# Altium footprint library SO_Test.PcbLib: 37 footprints (part 2 of 3)
Each footprint in its own frame and in the unit in brackets; x right, y up, seen from the top. Pads: shape width x height; smd on the part's side, far side on the other; paste and mask are expansions set on the pad; w line width, h text height; cw(c..) or ccw(c..) is an arc to the next point about the centre after c.
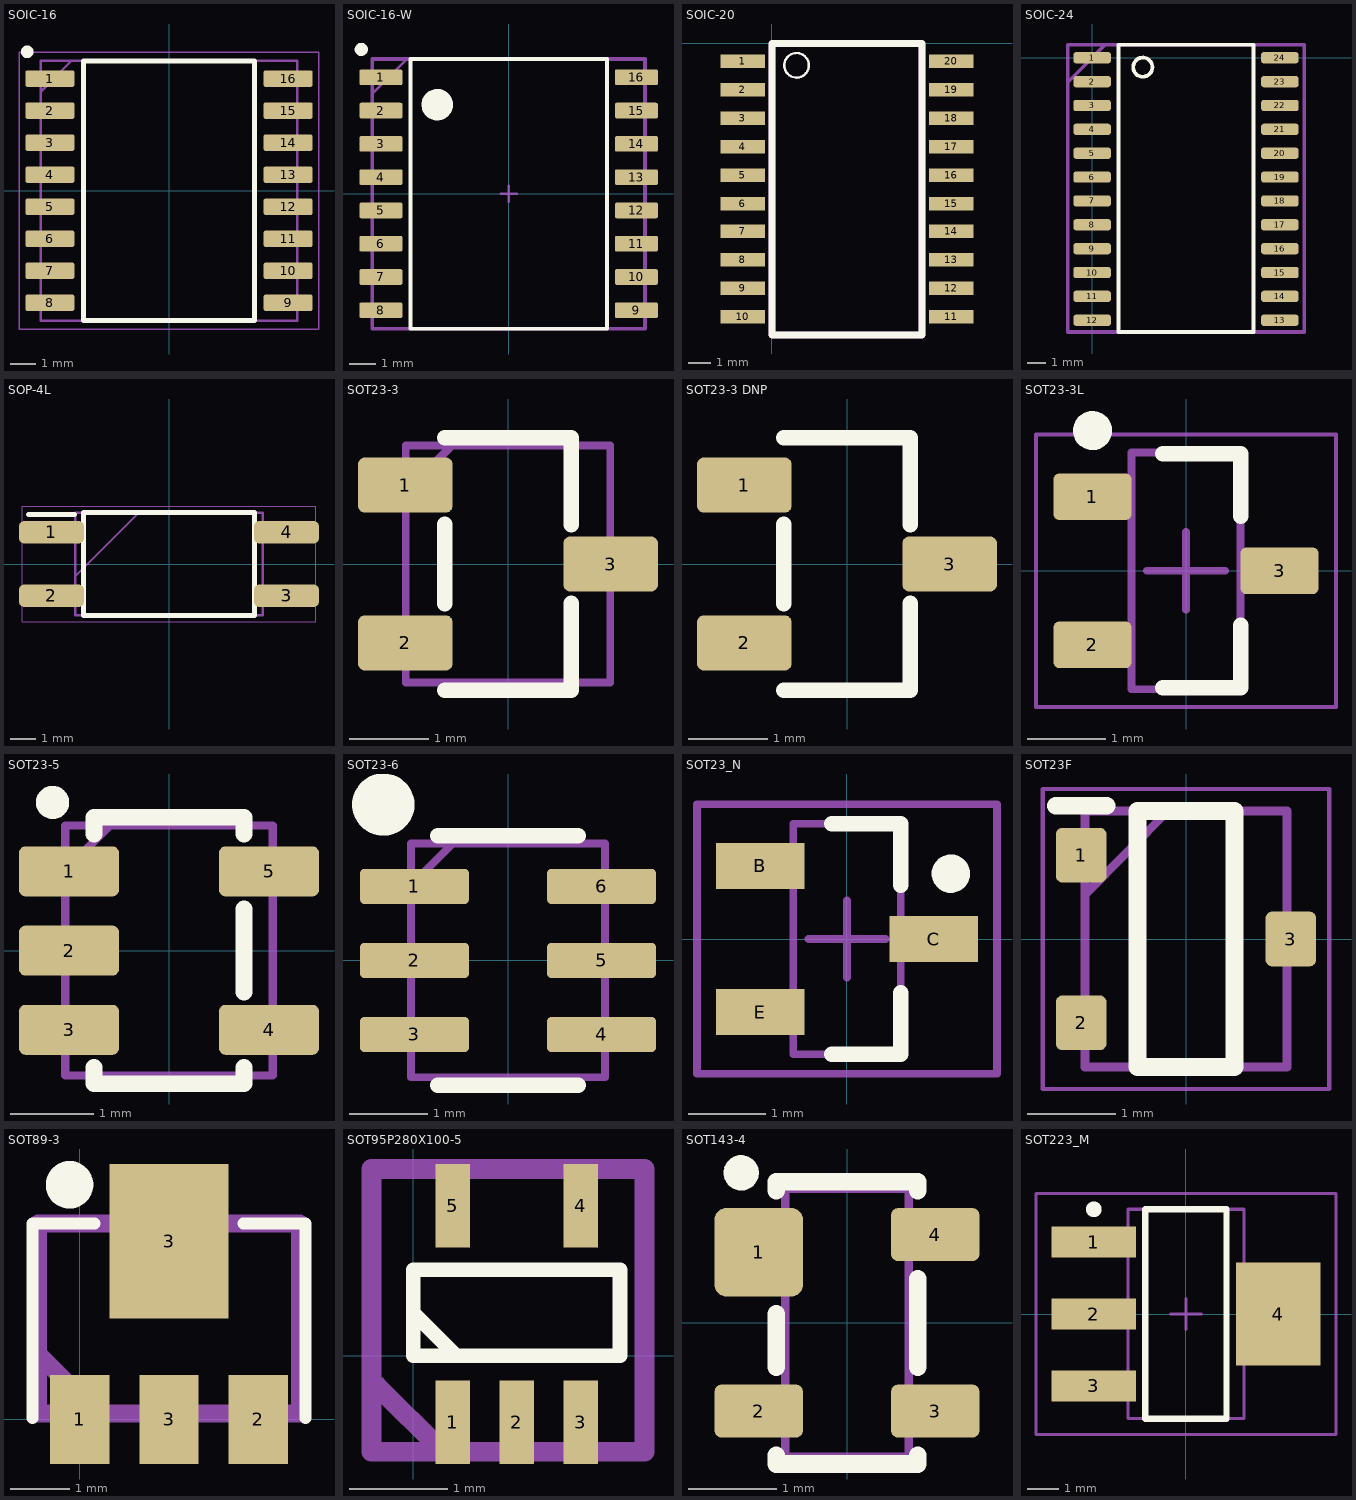
[diagram p1: the footprints below, top view; thin cyan lines are the x and y axes]

## SOIC-16 [mm]
pads (16):
  rrect25% 1.95x0.65 smd: 1(-4.725,4.445) 2(-4.725,3.175) 3(-4.725,1.905) 4(-4.725,0.635) 5(-4.725,-0.635) 6(-4.725,-1.905) 7(-4.725,-3.175) 8(-4.725,-4.445) 9(4.725,-4.445) 10(4.725,-3.175) 11(4.725,-1.905) 12(4.725,-0.635) 13(4.725,0.635) 14(4.725,1.905) 15(4.725,3.175) 16(4.725,4.445)
Top Overlay:
  circle w0.25: c-5.625,5.51 r0.125
  lines w0.2: -3.4,-5.15 3.4,-5.15 3.4,5.15 -3.4,5.15 -3.4,-5.15
Mechanical 15:
  lines w0.05: -5.95,-5.5 5.95,-5.5 5.95,5.5 -5.95,5.5 -5.95,-5.5
Mechanical 29:
  lines w0.1: -5.085,3.942 -3.877,5.15 ; -5.08,-5.15 5.08,-5.15 5.08,5.15 -5.08,5.15 -5.08,-5.15
  text "'.Designator'" at -3.068,-0.397 h1.27
3D body "ISO1050DWR.stp": height 2.65, standoff 0, extent -5.15,-5.15 5.15,5.15

## SOIC-16-W [mm]
pads (16):
  rrect25% 1.65x0.6 smd mask+0.05: 1(-4.875,4.445) 2(-4.875,3.175) 3(-4.875,1.905) 4(-4.875,0.635) 5(-4.875,-0.635) 6(-4.875,-1.905) 7(-4.875,-3.175) 8(-4.875,-4.445) 9(4.875,-4.445) 10(4.875,-3.175) 11(4.875,-1.905) 12(4.875,-0.635) 13(4.875,0.635) 14(4.875,1.905) 15(4.875,3.175) 16(4.875,4.445)
Top Overlay:
  circle w0.25: c-5.625,5.51 r0.125
  circle w0.6: c-2.725,3.4 r0.3
  lines w0.15: -3.75,-5.15 -3.75,5.15 3.75,5.15 3.75,-5.15 -3.75,-5.15
Mechanical 15:
  lines w0.1: -0.3,0 0.3,0 ; 0,-0.3 0,0.3
Mechanical 29:
  lines w0.1: -5.212,3.815 -3.877,5.15
  lines w0.15: -5.207,-5.15 5.207,-5.15 5.207,5.15 -5.207,5.15 -5.207,-5.15
  text "'.Designator'" at -3.068,-0.397 h1.27
3D body "SOIC-16 SiLabs Wide.STEP": height 2.66, standoff 0.01, extent -5.164,-5.15 5.164,5.15

## SOIC-20 [mm]
pads (20):
  rect 2x0.6 smd: 1(-1.3,-0.8) 2(-1.3,-2.07) 3(-1.3,-3.34) 4(-1.3,-4.61) 5(-1.3,-5.88) 6(-1.3,-7.15) 7(-1.3,-8.37) 8(-1.3,-9.64) 9(-1.3,-10.91) 10(-1.3,-12.18) 11(8,-12.18) 12(8,-10.91) 13(8,-9.64) 14(8,-8.37) 15(8,-7.15) 16(8,-5.88) 17(8,-4.61) 18(8,-3.34) 19(8,-2.07) 20(8,-0.8)
Top Overlay:
  circle w0.1: c1.1,-0.975 r0.549
  lines w0.3: 0,-13 6.7,-13 6.7,0 0,0 0,-13
Mechanical 29:
  circle w0.1: c1.1,-0.975 r0.549
  lines w0.3: 0,-13 0,0 6.7,0 6.7,-13 0,-13
  text "'.Designator'" at 3.874,-11.491 h2
3D body "SN74LS245DW.stp": height 2.65, standoff 0, extent -1.85,-12.9 8.45,-0.1

## SOIC-24 [mm]
pads (24):
  rrect50% 2x0.6 smd: 1(0,0) 2(0,-1.27) 3(0,-2.54) 4(0,-3.81) 5(0,-5.08) 6(0,-6.35) 7(0,-7.62) 8(0,-8.89) 9(0,-10.16) 10(0,-11.43) 11(0,-12.7) 12(0,-13.97) 13(10,-13.97) 14(10,-12.7) 15(10,-11.43) 16(10,-10.16) 17(10,-8.89) 18(10,-7.62) 19(10,-6.35) 20(10,-5.08) 21(10,-3.81) 22(10,-2.54) 23(10,-1.27) 24(10,0)
Top Overlay:
  circle w0.2: c2.7,-0.5 r0.51
  lines w0.2: 1.4,-14.6 8.6,-14.6 8.6,0.7 1.4,0.7 1.4,-14.6
Mechanical 29:
  lines w0.2: -1.3,-1.2 -1.3,-1.3 0.7,0.7 ; -1.3,-14.6 -1.3,0.7 11.3,0.7 11.3,-14.6 -1.3,-14.6
  text "'.Designator'" at -0.2,-7.8 h2
3D body "DW0024A.stp": height 1.75, standoff 0, extent -0.165,-14.7 10.165,0.7

## SOP-4L [mm]
pads (4):
  rrect50% 2.6x0.9 smd: 1(-4.7,1.27) 2(-4.7,-1.27) 3(4.7,-1.27) 4(4.7,1.27)
Top Overlay:
  lines w0.2: -5.625,1.97 -3.775,1.97 ; -3.425,-2.05 -3.425,2.05 3.425,2.05 3.425,-2.05 -3.425,-2.05
Mechanical 15:
  lines w0.05: -5.875,-2.3 -5.875,2.3 5.875,2.3 5.875,-2.3 -5.875,-2.3
Mechanical 29:
  lines w0.1: -3.75,-0.49 -1.21,2.05 ; -3.75,-2.05 -3.75,2.05 3.75,2.05 3.75,-2.05 -3.75,-2.05
  text "'.Designator'" at -3.068,-0.397 h1.27
3D body "SOP-4L_TC.step": height 2.31, standoff 0, extent -5.245,-2.045 5.245,2.045

## SOT23-3 [mm] "SOT-23, Micro3, MO-178, TO-236AB, MO-193C, SuperSOT3, SC-59, 1.5x3mm, Pitch 1.9mm"
height 2
pads (3):
  rrect25% 1.2x0.7 smd mask+0.1: 1(-1.3,1) 2(-1.3,-1) 3(1.3,0)
Top Overlay:
  lines w0.2: -0.8,-1.6 0.8,-1.6 0.8,-0.5 ; -0.8,-0.5 -0.8,0.5 ; -0.8,1.6 0.8,1.6 0.8,0.5
Mechanical 29:
  lines w0.1: -1.27,0.94 -0.735,1.475 ; -1.295,-1.5 -1.295,1.5 1.295,1.5 1.295,-1.5 -1.295,-1.5
  text "'.Designator'" at -0.916,-0.086 h0.38
3D body "User Library-SOT23-2.STEP": height 1.08, standoff 0, extent -1.32,-1.5 1.32,1.5

## SOT23-3 DNP [mm] "SOT-23, Micro3, MO-178, TO-236AB, MO-193C, SuperSOT3, SC-59, 1.5x3mm, Pitch 1.9mm"
height 2
pads (3):
  rrect25% 1.2x0.7 smd mask+0.1: 1(-1.3,1) 2(-1.3,-1) 3(1.3,0)
Top Overlay:
  lines w0.2: -0.8,-1.6 0.8,-1.6 0.8,-0.5 ; -0.8,-0.5 -0.8,0.5 ; -0.8,1.6 0.8,1.6 0.8,0.5

## SOT23-3L [mm] "SOT23, 3-Leads, Body 2.92x2.37mm, Pitch 0.95mm, IPC Medium Density"
height 1.12
pads (3):
  rrect25% 1x0.6 smd: 1(-1.2,0.95) 2(-1.2,-0.95) 3(1.2,0)
Top Overlay:
  circle w0.25: c-1.2,1.8 r0.125
  lines w0.2: -0.3,-1.5 0.7,-1.5 0.7,-0.7 ; -0.3,1.5 0.7,1.5 0.7,0.7
Mechanical 15:
  lines w0.05: -1.925,-1.75 -1.925,1.75 1.925,1.75 1.925,-1.75 -1.925,-1.75
  lines w0.1: -0.5,0 0.5,0 ; 0,-0.5 0,0.5
Mechanical 29:
  lines w0.1: -0.7,-1.52 -0.7,1.52 0.7,1.52 0.7,-1.52 -0.7,-1.52
  text "'.Designator'" at 0.086,-0.916 h0.38
3D body "User Library-SOT23-2.STEP": height 1.08, standoff 0, extent -1.32,-1.5 1.32,1.5

## SOT23-5 [mm] "SOT-23-5, SOT25, SOT-25, DBV(R-PDSO-G5), SOT753, TSOT23-5, SC-74A, SOT23-5, S5-T (LINEAR), MO-178AA, MO-193AB(JEDEC), MF05A (NS), TSOP-5(ON), UJ-5 (AD), 1.5x3mm, Pitch 0.65mm"
height 7.62
pads (5):
  rrect25% 1.2x0.6 smd: 1(-1.2,0.95) 2(-1.2,0) 3(-1.2,-0.95) 4(1.2,-0.95) 5(1.2,0.95)
Top Overlay:
  circle w0.2: c-1.397,1.778 r0.1
  lines w0.2: -0.9,-1.4 -0.9,-1.6 0.9,-1.6 0.9,-1.4 ; -0.9,1.4 -0.9,1.6 0.9,1.6 0.9,1.4 ; 0.9,-0.5 0.9,0.5
Mechanical 29:
  lines w0.1: -1.243,0.967 -1.243,1.5 -0.71,1.5 ; -0.71,1.5 1.245,1.5 1.245,-1.5 -1.245,-1.5 -1.245,0.965 -0.71,1.5
  text "'.Designator'" at -0.916,-0.086 h0.38
3D body "CircuitWorks-SOT-23-5.step": height 1.15, standoff 0.05, extent -1.25,-1.5 1.25,1.5

## SOT23-6 [mm]
height 7.62
pads (6):
  rrect25% 1.4x0.45 smd: 1(-1.2,0.95) 2(-1.2,0) 3(-1.2,-0.95) 4(1.2,-0.95) 5(1.2,0) 6(1.2,0.95)
Top Overlay:
  circle w0.4: c-1.6,2 r0.2
  lines w0.2: -0.9,-1.6 0.9,-1.6 ; -0.9,1.6 0.9,1.6
Mechanical 29:
  lines w0.1: -1.243,0.967 -1.243,1.5 -0.71,1.5 ; -0.71,1.5 1.245,1.5 1.245,-1.5 -1.245,-1.5 -1.245,0.965 -0.71,1.5
  text "'.Designator'" at -0.916,-0.119 h0.38
3D body "sot-23-6.stp": height 1.12, standoff 0.01, extent -1.423,-1.46 1.422,1.461

## SOT23_N [mm] "SOT23, 3-Leads, Body 2.9x1.3mm, Pitch 0.95mm, Lead Span 2.3mm - Reverse Pinning, IPC Medium Density"
height 1.1
pads (3):
  rect 1.15x0.6 smd: B(-1.125,0.95) C(1.125,0) E(-1.125,-0.95)
Top Overlay:
  circle w0.25: c1.35,0.85 r0.125
  lines w0.2: -0.2,-1.5 0.7,-1.5 0.7,-0.7 ; -0.2,1.5 0.7,1.5 0.7,0.7
Mechanical 15:
  lines w0.1: -0.5,0 0.5,0 ; 0,-0.5 0,0.5 ; -1.95,-1.75 1.95,-1.75 1.95,1.75 -1.95,1.75 -1.95,-1.75
Mechanical 29:
  lines w0.1: -0.7,-1.5 0.7,-1.5 0.7,1.5 -0.7,1.5 -0.7,-1.5
  text "'.Designator'" at -0.584,-0.313 h0.51
3D body "BSS84.stp": height 1.21, standoff 0.01, extent -1.2,-1.46 1.2,1.46

## SOT23F [mm]
pads (3):
  rrect25% 0.575x0.62 smd: 1(-1.188,0.95) 2(-1.188,-0.95) 3(1.188,0)
Top Overlay:
  lines w0.2: -1.475,1.51 -0.9,1.51 ; -0.55,-1.45 -0.55,1.45 0.55,1.45 0.55,-1.45 -0.55,-1.45
Mechanical 15:
  lines w0.05: -1.625,-1.7 -1.625,1.7 1.625,1.7 1.625,-1.7 -1.625,-1.7
Mechanical 29:
  lines w0.1: -1.143,0.508 -0.204,1.45 ; -1.143,-1.45 -1.143,1.45 1.143,1.45 1.143,-1.45 -1.143,-1.45
  text "'.Designator'" at -0.916,-0.119 h0.38
3D body "SSM3K339R,LF.stp": height 0.88, standoff 0, extent -1.2,-1.45 1.2,1.45

## SOT89-3 [mm]
pads (4):
  rect 1x1.5 smd: 1(0,0) 2(3,0) 3(1.5,0)
  rect 2x2.6 smd: 3(1.5,3)
Top Overlay:
  circle w0.5: c-0.175,3.95 r0.15
  lines w0.2: -0.8,0.025 -0.8,3.3 0.25,3.3 ; 2.75,3.3 3.8,3.3 3.8,0.025
Mechanical 29:
  lines w0.3: -0.7,1.1 0.3,0.1 ; -0.7,0.1 -0.7,3.3 0.3,3.3 3.7,3.3 3.7,0.1 2.8,0.1 0.6,0.1 -0.7,0.1
  text "'.Designator'" at -0.432,1.35 h0.8
3D body "User Library-SOT-89-3.STEP": height 1.5, standoff 0, extent -0.75,-0.2 3.75,3.8

## SOT95P280X100-5 [mm]
pads (5):
  rect 0.35x0.85 smd: 1(0.4,-0.675) 2(1.05,-0.675) 3(1.7,-0.675) 4(1.7,1.525) 5(0.4,1.525)
Top Overlay:
  lines w0.15: 0,0.437 0.437,0 ; 0,0 0,0.875 2.1,0.875 2.1,0 0,0
Mechanical 29:
  lines w0.2: -0.375,-0.325 -0.375,-0.3 0.3,-0.975 0.425,-0.975 ; -0.425,-0.975 2.35,-0.975 2.35,1.9 -0.425,1.9 -0.425,-0.975
  text "'.Designator'" at -0.209,0.369 h0.5
3D body "User Library-SC70-5-1.STEP": height 0.95, standoff 0, extent 0.05,-0.575 2.05,1.525

## SOT143-4 [mm] "SC-74A , SOT143, TO-253A, LAT-3/MMM168, MW-4, 1.5X3mm, 1.9mm pitch"
height 1.2
pads (4):
  rrect25% 1x1 smd: 1(-1,0.8)
  rrect25% 1x0.6 smd: 2(-1,-1) 3(1,-1) 4(1,1)
Top Overlay:
  circle w0.2: c-1.2,1.7 r0.1
  lines w0.2: -0.8,-1.5 -0.8,-1.6 0.8,-1.6 0.8,-1.5 ; -0.8,-0.5 -0.8,0.1 ; -0.8,1.5 -0.8,1.6 0.8,1.6 0.8,1.5 ; 0.8,-0.5 0.8,0.5
Mechanical 29:
  lines w0.1: -0.7,-1.52 0.7,-1.52 0.7,1.52 -0.7,1.52 -0.7,-1.52
  text "'.Designator'" at -0.916,-0.086 h0.38
3D body "User Library-sot143.step": height 1, standoff 0, extent -1.21,-1.46 1.21,1.46

## SOT223_M [mm] "SOT223, 4-Leads, Body 6.5x3.5mm, Pitch 2.3mm, Lead Span 7mm, IPC Low Density"
height 1.7
pads (4):
  rect 2.7x1 smd: 1(-2.95,2.3) 2(-2.95,0) 3(-2.95,-2.3)
  rect 2.7x3.3 smd: 4(2.95,0)
Top Overlay:
  circle w0.25: c-2.95,3.35 r0.125
  lines w0.2: -1.3,-3.35 1.3,-3.35 1.3,3.35 -1.3,3.35 -1.3,-3.35
Mechanical 15:
  lines w0.1: -0.5,0 0.5,0 ; 0,-0.5 0,0.5 ; -4.8,-3.85 4.8,-3.85 4.8,3.85 -4.8,3.85 -4.8,-3.85
Mechanical 29:
  lines w0.1: -1.85,-3.35 1.85,-3.35 1.85,3.35 -1.85,3.35 -1.85,-3.35
  text "'.Designator'" at -1.702,-0.644 h0.51
3D body "LM1117MPX-3.3_NOPB.stp": height 1.81, standoff 0.01, extent -3.5,-3.25 3.5,3.25